# Altium schematic symbol library WR-WTB.SchLib: 259 symbols (part 4 of 5)
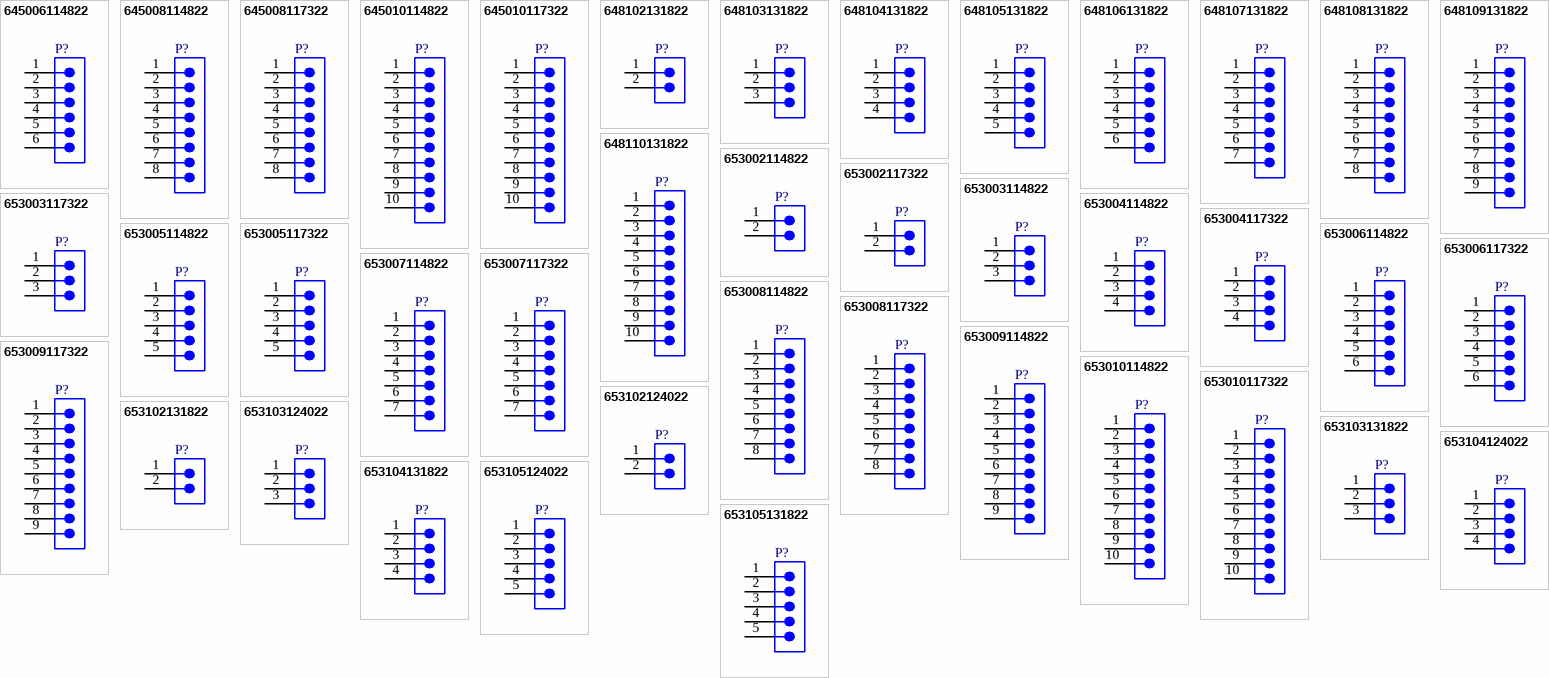
[diagram p9: symbols 645006114822 to 653105131822]

## 653002117322
designator P?  (value not drawn)
WR-WTB THT Male Horizontal Shrouded Header, pitch 1.25mm, 2pins; Manufacturer: Wurth Elektronik; Contact Resistance: 20mohm; Rated Current: 1A; Working Voltage: 125V(AC); Withstanding Voltage: 250V(AC); Manufacturer Part Number: 653002117322; Product Series: WR-WTB; ComponentLink1Description: Website Link; ComponentLink1URL: https://www.we-online.com; ComponentLink2Description: Datasheet Link; ComponentLink2URL: https://www.we-online.com/components/products/datasheet/653002117322; Mount: Through Hole; Operating Temperature Min: -40degC; Operating Temperature Max: 85degC; Packaging: Tube; Length: 4.25mm; Width: 4.7mm; Height: 3.5mm; Gender: Male; Number of Pins: 2; Number of Rows: 1; Orientation: Horizontal; Lead Pitch: 1.25mm
footprint 653002117322
pins: 1, 2

## 653003114822
designator P?  (value not drawn)
WR-WTB THT Male Vertical Shrouded Header, pitch 1.25mm, 3pins; Manufacturer: Wurth Elektronik; Contact Resistance: 20mohm; Rated Current: 1A; Working Voltage: 125V(AC); Withstanding Voltage: 250V(AC); Manufacturer Part Number: 653003114822; Product Series: WR-WTB; ComponentLink1Description: Website Link; ComponentLink1URL: https://www.we-online.com; ComponentLink2Description: Datasheet Link; ComponentLink2URL: https://www.we-online.com/components/products/datasheet/653003114822; Mount: Through Hole; Operating Temperature Min: -40degC; Operating Temperature Max: 85degC; Packaging: Bag; Length: 5.5mm; Width: 3.2mm; Height: 4.2mm; Gender: Male; Number of Pins: 3; Number of Rows: 1; Orientation: Vertical; Lead Pitch: 1.25mm
footprint 653003114822
pins: 1, 2, 3

## 653003117322
designator P?  (value not drawn)
WR-WTB THT Male Horizontal Shrouded Header, pitch 1.25mm, 3pins; Manufacturer: Wurth Elektronik; Contact Resistance: 20mohm; Rated Current: 1A; Working Voltage: 125V(AC); Withstanding Voltage: 250V(AC); Manufacturer Part Number: 653003117322; Product Series: WR-WTB; ComponentLink1Description: Website Link; ComponentLink1URL: https://www.we-online.com; ComponentLink2Description: Datasheet Link; ComponentLink2URL: https://www.we-online.com/components/products/datasheet/653003117322; Mount: Through Hole; Operating Temperature Min: -40degC; Operating Temperature Max: 85degC; Packaging: Tube; Length: 5.5mm; Width: 4.7mm; Height: 3.5mm; Gender: Male; Number of Pins: 3; Number of Rows: 1; Orientation: Horizontal; Lead Pitch: 1.25mm
footprint 653003117322
pins: 1, 2, 3

## 653004114822
designator P?  (value not drawn)
WR-WTB THT Male Vertical Shrouded Header, pitch 1.25mm, 4pins; Manufacturer: Wurth Elektronik; Contact Resistance: 20mohm; Rated Current: 1A; Working Voltage: 125V(AC); Withstanding Voltage: 250V(AC); Manufacturer Part Number: 653004114822; Product Series: WR-WTB; ComponentLink1Description: Website Link; ComponentLink1URL: https://www.we-online.com; ComponentLink2Description: Datasheet Link; ComponentLink2URL: https://www.we-online.com/components/products/datasheet/653004114822; Mount: Through Hole; Operating Temperature Min: -40degC; Operating Temperature Max: 85degC; Packaging: Tube; Length: 6.75mm; Width: 3.2mm; Height: 4.2mm; Gender: Male; Number of Pins: 4; Number of Rows: 1; Orientation: Vertical; Lead Pitch: 1.25mm
footprint 653004114822
pins: 1, 2, 3, 4

## 653004117322
designator P?  (value not drawn)
WR-WTB THT Male Horizontal Shrouded Header, pitch 1.25mm, 4pins; Manufacturer: Wurth Elektronik; Contact Resistance: 20mohm; Rated Current: 1A; Working Voltage: 125V(AC); Withstanding Voltage: 250V(AC); Manufacturer Part Number: 653004117322; Product Series: WR-WTB; ComponentLink1Description: Website Link; ComponentLink1URL: https://www.we-online.com; ComponentLink2Description: Datasheet Link; ComponentLink2URL: https://www.we-online.com/components/products/datasheet/653004117322; Mount: Through Hole; Operating Temperature Min: -40degC; Operating Temperature Max: 85degC; Packaging: Tube; Length: 6.75mm; Width: 4.7mm; Height: 3.5mm; Gender: Male; Number of Pins: 4; Number of Rows: 1; Orientation: Horizontal; Lead Pitch: 1.25mm
footprint 653004117322
pins: 1, 2, 3, 4

## 653005114822
designator P?  (value not drawn)
WR-WTB THT Male Vertical Shrouded Header, pitch 1.25mm, 5pins; Manufacturer: Wurth Elektronik; Contact Resistance: 20mohm; Rated Current: 1A; Working Voltage: 125V(AC); Withstanding Voltage: 250V(AC); Manufacturer Part Number: 653005114822; Product Series: WR-WTB; ComponentLink1Description: Website Link; ComponentLink1URL: https://www.we-online.com; ComponentLink2Description: Datasheet Link; ComponentLink2URL: https://www.we-online.com/components/products/datasheet/653005114822; Mount: Through Hole; Operating Temperature Min: -40degC; Operating Temperature Max: 85degC; Packaging: Tube; Length: 8mm; Width: 3.2mm; Height: 4.2mm; Gender: Male; Number of Pins: 5; Number of Rows: 1; Orientation: Vertical; Lead Pitch: 1.25mm
footprint 653005114822
pins: 1, 2, 3, 4, 5

## 653005117322
designator P?  (value not drawn)
WR-WTB THT Male Horizontal Shrouded Header, pitch 1.25mm, 5pins; Manufacturer: Wurth Elektronik; Contact Resistance: 20mohm; Rated Current: 1A; Working Voltage: 125V(AC); Withstanding Voltage: 250V(AC); Manufacturer Part Number: 653005117322; Product Series: WR-WTB; ComponentLink1Description: Website Link; ComponentLink1URL: https://www.we-online.com; ComponentLink2Description: Datasheet Link; ComponentLink2URL: https://www.we-online.com/components/products/datasheet/653005117322; Mount: Through Hole; Operating Temperature Min: -40degC; Operating Temperature Max: 85degC; Packaging: Tube; Length: 8mm; Width: 4.7mm; Height: 3.5mm; Gender: Male; Number of Pins: 5; Number of Rows: 1; Orientation: Horizontal; Lead Pitch: 1.25mm
footprint 653005117322
pins: 1, 2, 3, 4, 5

## 653006114822
designator P?  (value not drawn)
WR-WTB THT Male Vertical Shrouded Header, pitch 1.25mm, 6pins; Manufacturer: Wurth Elektronik; Contact Resistance: 20mohm; Rated Current: 1A; Working Voltage: 125V(AC); Withstanding Voltage: 250V(AC); Manufacturer Part Number: 653006114822; Product Series: WR-WTB; ComponentLink1Description: Website Link; ComponentLink1URL: https://www.we-online.com; ComponentLink2Description: Datasheet Link; ComponentLink2URL: https://www.we-online.com/components/products/datasheet/653006114822; Mount: Through Hole; Operating Temperature Min: -40degC; Operating Temperature Max: 85degC; Packaging: Tube; Length: 9.25mm; Width: 3.2mm; Height: 4.2mm; Gender: Male; Number of Pins: 6; Number of Rows: 1; Orientation: Vertical; Lead Pitch: 1.25mm
footprint 653006114822
pins: 1, 2, 3, 4, 5, 6

## 653006117322
designator P?  (value not drawn)
WR-WTB THT Male Horizontal Shrouded Header, pitch 1.25mm, 6pins; Manufacturer: Wurth Elektronik; Contact Resistance: 20mohm; Rated Current: 1A; Working Voltage: 125V(AC); Withstanding Voltage: 250V(AC); Manufacturer Part Number: 653006117322; Product Series: WR-WTB; ComponentLink1Description: Website Link; ComponentLink1URL: https://www.we-online.com; ComponentLink2Description: Datasheet Link; ComponentLink2URL: https://www.we-online.com/components/products/datasheet/653006117322; Mount: Through Hole; Operating Temperature Min: -40degC; Operating Temperature Max: 85degC; Packaging: Tube; Length: 9.25mm; Width: 4.7mm; Height: 3.5mm; Gender: Male; Number of Pins: 6; Number of Rows: 1; Orientation: Horizontal; Lead Pitch: 1.25mm
footprint 653006117322
pins: 1, 2, 3, 4, 5, 6

## 653007114822
designator P?  (value not drawn)
WR-WTB THT Male Vertical Shrouded Header, pitch 1.25mm, 7pins; Manufacturer: Wurth Elektronik; Contact Resistance: 20mohm; Rated Current: 1A; Working Voltage: 125V(AC); Withstanding Voltage: 250V(AC); Manufacturer Part Number: 653007114822; Product Series: WR-WTB; ComponentLink1Description: Website Link; ComponentLink1URL: https://www.we-online.com; ComponentLink2Description: Datasheet Link; ComponentLink2URL: https://www.we-online.com/components/products/datasheet/653007114822; Mount: Through Hole; Operating Temperature Min: -40degC; Operating Temperature Max: 85degC; Packaging: Tube; Length: 10.5mm; Width: 3.2mm; Height: 4.2mm; Gender: Male; Number of Pins: 7; Number of Rows: 1; Orientation: Vertical; Lead Pitch: 1.25mm
footprint 653007114822
pins: 1, 2, 3, 4, 5, 6, 7

## 653007117322
designator P?  (value not drawn)
WR-WTB THT Male Horizontal Shrouded Header, pitch 1.25mm, 7pins; Manufacturer: Wurth Elektronik; Contact Resistance: 20mohm; Rated Current: 1A; Working Voltage: 125V(AC); Withstanding Voltage: 250V(AC); Manufacturer Part Number: 653007117322; Product Series: WR-WTB; ComponentLink1Description: Website Link; ComponentLink1URL: https://www.we-online.com; ComponentLink2Description: Datasheet Link; ComponentLink2URL: https://www.we-online.com/components/products/datasheet/653007117322; Mount: Through Hole; Operating Temperature Min: -40degC; Operating Temperature Max: 85degC; Packaging: Tube; Length: 10.5mm; Width: 4.7mm; Height: 3.5mm; Gender: Male; Number of Pins: 7; Number of Rows: 1; Orientation: Horizontal; Lead Pitch: 1.25mm
footprint 653007117322
pins: 1, 2, 3, 4, 5, 6, 7

## 653008114822
designator P?  (value not drawn)
WR-WTB THT Male Vertical Shrouded Header, pitch 1.25mm, 8pins; Manufacturer: Wurth Elektronik; Contact Resistance: 20mohm; Rated Current: 1A; Working Voltage: 125V(AC); Withstanding Voltage: 250V(AC); Manufacturer Part Number: 653008114822; Product Series: WR-WTB; ComponentLink1Description: Website Link; ComponentLink1URL: https://www.we-online.com; ComponentLink2Description: Datasheet Link; ComponentLink2URL: https://www.we-online.com/components/products/datasheet/653008114822; Mount: Through Hole; Operating Temperature Min: -40degC; Operating Temperature Max: 85degC; Packaging: Tube; Length: 11.75mm; Width: 3.2mm; Height: 4.2mm; Gender: Male; Number of Pins: 8; Number of Rows: 1; Orientation: Vertical; Lead Pitch: 1.25mm
footprint 653008114822
pins: 1, 2, 3, 4, 5, 6, 7, 8

## 653008117322
designator P?  (value not drawn)
WR-WTB THT Male Horizontal Shrouded Header, pitch 1.25mm, 8pins; Manufacturer: Wurth Elektronik; Contact Resistance: 20mohm; Rated Current: 1A; Working Voltage: 125V(AC); Withstanding Voltage: 250V(AC); Manufacturer Part Number: 653008117322; Product Series: WR-WTB; ComponentLink1Description: Website Link; ComponentLink1URL: https://www.we-online.com; ComponentLink2Description: Datasheet Link; ComponentLink2URL: https://www.we-online.com/components/products/datasheet/653008117322; Mount: Through Hole; Operating Temperature Min: -40degC; Operating Temperature Max: 85degC; Packaging: Tube; Length: 11.75mm; Width: 4.7mm; Height: 3.5mm; Gender: Male; Number of Pins: 8; Number of Rows: 1; Orientation: Horizontal; Lead Pitch: 1.25mm
footprint 653008117322
pins: 1, 2, 3, 4, 5, 6, 7, 8

## 653009114822
designator P?  (value not drawn)
WR-WTB THT Male Vertical Shrouded Header, pitch 1.25mm, 9pins; Manufacturer: Wurth Elektronik; Contact Resistance: 20mohm; Rated Current: 1A; Working Voltage: 125V(AC); Withstanding Voltage: 250V(AC); Manufacturer Part Number: 653009114822; Product Series: WR-WTB; ComponentLink1Description: Website Link; ComponentLink1URL: https://www.we-online.com; ComponentLink2Description: Datasheet Link; ComponentLink2URL: https://www.we-online.com/components/products/datasheet/653009114822; Mount: Through Hole; Operating Temperature Min: -40degC; Operating Temperature Max: 85degC; Packaging: Tube; Length: 13mm; Width: 3.2mm; Height: 4.2mm; Gender: Male; Number of Pins: 9; Number of Rows: 1; Orientation: Vertical; Lead Pitch: 1.25mm
footprint 653009114822
pins: 1, 2, 3, 4, 5, 6, 7, 8, 9

## 653009117322
designator P?  (value not drawn)
WR-WTB THT Male Horizontal Shrouded Header, pitch 1.25mm, 9pins; Manufacturer: Wurth Elektronik; Contact Resistance: 20mohm; Rated Current: 1A; Working Voltage: 125V(AC); Withstanding Voltage: 250V(AC); Manufacturer Part Number: 653009117322; Product Series: WR-WTB; ComponentLink1Description: Website Link; ComponentLink1URL: https://www.we-online.com; ComponentLink2Description: Datasheet Link; ComponentLink2URL: https://www.we-online.com/components/products/datasheet/653009117322; Mount: Through Hole; Operating Temperature Min: -40degC; Operating Temperature Max: 85degC; Packaging: Tube; Length: 13mm; Width: 4.7mm; Height: 3.5mm; Gender: Male; Number of Pins: 9; Number of Rows: 1; Orientation: Horizontal; Lead Pitch: 1.25mm
footprint 653009117322
pins: 1, 2, 3, 4, 5, 6, 7, 8, 9

## 653010114822
designator P?  (value not drawn)
WR-WTB THT Male Vertical Shrouded Header, pitch 1.25mm, 10pins; Manufacturer: Wurth Elektronik; Contact Resistance: 20mohm; Rated Current: 1A; Working Voltage: 125V(AC); Withstanding Voltage: 250V(AC); Manufacturer Part Number: 653010114822; Product Series: WR-WTB; ComponentLink1Description: Website Link; ComponentLink1URL: https://www.we-online.com; ComponentLink2Description: Datasheet Link; ComponentLink2URL: https://www.we-online.com/components/products/datasheet/653010114822; Mount: Through Hole; Operating Temperature Min: -40degC; Operating Temperature Max: 85degC; Packaging: Tube; Length: 14.25mm; Width: 3.2mm; Height: 4.2mm; Gender: Male; Number of Pins: 10; Number of Rows: 1; Orientation: Vertical; Lead Pitch: 1.25mm
footprint 653010114822
pins: 1, 2, 3, 4, 5, 6, 7, 8, 9, 10

## 653010117322
designator P?  (value not drawn)
WR-WTB THT Male Horizontal Shrouded Header, pitch 1.25mm, 10pins; Manufacturer: Wurth Elektronik; Contact Resistance: 20mohm; Rated Current: 1A; Working Voltage: 125V(AC); Withstanding Voltage: 250V(AC); Manufacturer Part Number: 653010117322; Product Series: WR-WTB; ComponentLink1Description: Website Link; ComponentLink1URL: https://www.we-online.com; ComponentLink2Description: Datasheet Link; ComponentLink2URL: https://www.we-online.com/components/products/datasheet/653010117322; Mount: Through Hole; Operating Temperature Min: -40degC; Operating Temperature Max: 85degC; Packaging: Tube; Length: 14.25mm; Width: 4.7mm; Height: 3.5mm; Gender: Male; Number of Pins: 10; Number of Rows: 1; Orientation: Horizontal; Lead Pitch: 1.25mm
footprint 653010117322
pins: 1, 2, 3, 4, 5, 6, 7, 8, 9, 10

## 653102124022
designator P?  (value not drawn)
WR-WTB SMT Male Vertical Shrouded Header, pitch 1.25mm, 2pins; Manufacturer: Wurth Elektronik; Contact Resistance: 20mohm; Rated Current: 1A; Working Voltage: 125V(AC); Withstanding Voltage: 250V(AC); Manufacturer Part Number: 653102124022; Product Series: WR-WTB; ComponentLink1Description: Website Link; ComponentLink1URL: https://www.we-online.com; ComponentLink2Description: Datasheet Link; ComponentLink2URL: https://www.we-online.com/components/products/datasheet/653102124022; Mount: Surface Mount; Operating Temperature Min: -40degC; Operating Temperature Max: 85degC; Packaging: Tape and Reel; Length: 7.25mm; Width: 4.2mm; Height: 4.75mm; Gender: Male; Number of Pins: 2; Number of Rows: 1; Orientation: Vertical; Lead Pitch: 1.25mm
footprint 653102124022
pins: 1, 2

## 653102131822
designator P?  (value not drawn)
WR-WTB SMT Male Horizontal Shrouded Header, pitch 1.25mm, 2pins; Manufacturer: Wurth Elektronik; Contact Resistance: 20mohm; Rated Current: 1A; Working Voltage: 125V(AC); Withstanding Voltage: 250V(AC); Manufacturer Part Number: 653102131822; Product Series: WR-WTB; ComponentLink1Description: Website Link; ComponentLink1URL: https://www.we-online.com; ComponentLink2Description: Datasheet Link; ComponentLink2URL: https://www.we-online.com/components/products/datasheet/653102131822; Mount: Surface Mount; Operating Temperature Min: -40degC; Operating Temperature Max: 85degC; Packaging: Tape and Reel; Length: 7.25mm; Width: 5.4mm; Height: 3.4mm; Gender: Male; Number of Pins: 2; Number of Rows: 1; Orientation: Horizontal; Lead Pitch: 1.25mm
footprint 653102131822
pins: 1, 2

## 653103124022
designator P?  (value not drawn)
WR-WTB SMT Male Vertical Shrouded Header, pitch 1.25mm, 3pins; Manufacturer: Wurth Elektronik; Contact Resistance: 20mohm; Rated Current: 1A; Working Voltage: 125V(AC); Withstanding Voltage: 250V(AC); Manufacturer Part Number: 653103124022; Product Series: WR-WTB; ComponentLink1Description: Website Link; ComponentLink1URL: https://www.we-online.com; ComponentLink2Description: Datasheet Link; ComponentLink2URL: https://www.we-online.com/components/products/datasheet/653103124022; Mount: Surface Mount; Operating Temperature Min: -40degC; Operating Temperature Max: 85degC; Packaging: Tape and Reel; Length: 8.5mm; Width: 4.2mm; Height: 4.75mm; Gender: Male; Number of Pins: 3; Number of Rows: 1; Orientation: Vertical; Lead Pitch: 1.25mm
footprint 653103124022
pins: 1, 2, 3

## 653103131822
designator P?  (value not drawn)
WR-WTB SMT Male Horizontal Shrouded Header, pitch 1.25mm, 3pins; Manufacturer: Wurth Elektronik; Contact Resistance: 20mohm; Rated Current: 1A; Working Voltage: 125V(AC); Withstanding Voltage: 250V(AC); Manufacturer Part Number: 653103131822; Product Series: WR-WTB; ComponentLink1Description: Website Link; ComponentLink1URL: https://www.we-online.com; ComponentLink2Description: Datasheet Link; ComponentLink2URL: https://www.we-online.com/components/products/datasheet/653103131822; Mount: Surface Mount; Operating Temperature Min: -40degC; Operating Temperature Max: 85degC; Packaging: Tape and Reel; Length: 8.5mm; Width: 5.4mm; Height: 3.4mm; Gender: Male; Number of Pins: 3; Number of Rows: 1; Orientation: Horizontal; Lead Pitch: 1.25mm
footprint 653103131822
pins: 1, 2, 3

## 653104124022
designator P?  (value not drawn)
WR-WTB SMT Male Vertical Shrouded Header, pitch 1.25mm, 4pins; Manufacturer: Wurth Elektronik; Contact Resistance: 20mohm; Rated Current: 1A; Working Voltage: 125V(AC); Withstanding Voltage: 250V(AC); Manufacturer Part Number: 653104124022; Product Series: WR-WTB; ComponentLink1Description: Website Link; ComponentLink1URL: https://www.we-online.com; ComponentLink2Description: Datasheet Link; ComponentLink2URL: https://www.we-online.com/components/products/datasheet/653104124022; Mount: Surface Mount; Operating Temperature Min: -40degC; Operating Temperature Max: 85degC; Packaging: Tape and Reel; Length: 9.75mm; Width: 4.2mm; Height: 4.75mm; Gender: Male; Number of Pins: 4; Number of Rows: 1; Orientation: Vertical; Lead Pitch: 1.25mm
footprint 653104124022
pins: 1, 2, 3, 4

## 653104131822
designator P?  (value not drawn)
WR-WTB SMT Male Horizontal Shrouded Header, pitch 1.25mm, 4pins; Manufacturer: Wurth Elektronik; Contact Resistance: 20mohm; Rated Current: 1A; Working Voltage: 125V(AC); Withstanding Voltage: 250V(AC); Manufacturer Part Number: 653104131822; Product Series: WR-WTB; ComponentLink1Description: Website Link; ComponentLink1URL: https://www.we-online.com; ComponentLink2Description: Datasheet Link; ComponentLink2URL: https://www.we-online.com/components/products/datasheet/653104131822; Mount: Surface Mount; Operating Temperature Min: -40degC; Operating Temperature Max: 85degC; Packaging: Tape and Reel; Length: 9.75mm; Width: 5.4mm; Height: 3.4mm; Gender: Male; Number of Pins: 4; Number of Rows: 1; Orientation: Horizontal; Lead Pitch: 1.25mm
footprint 653104131822
pins: 1, 2, 3, 4

## 653105124022
designator P?  (value not drawn)
WR-WTB SMT Male Vertical Shrouded Header, pitch 1.25mm, 5pins; Manufacturer: Wurth Elektronik; Contact Resistance: 20mohm; Rated Current: 1A; Working Voltage: 125V(AC); Withstanding Voltage: 250V(AC); Manufacturer Part Number: 653105124022; Product Series: WR-WTB; ComponentLink1Description: Website Link; ComponentLink1URL: https://www.we-online.com; ComponentLink2Description: Datasheet Link; ComponentLink2URL: https://www.we-online.com/components/products/datasheet/653105124022; Mount: Surface Mount; Operating Temperature Min: -40degC; Operating Temperature Max: 85degC; Packaging: Tape and Reel; Length: 11mm; Width: 4.2mm; Height: 4.75mm; Gender: Male; Number of Pins: 5; Number of Rows: 1; Orientation: Vertical; Lead Pitch: 1.25mm
footprint 653105124022
pins: 1, 2, 3, 4, 5

## 653105131822
designator P?  (value not drawn)
WR-WTB SMT Male Horizontal Shrouded Header, pitch 1.25mm, 5pins; Manufacturer: Wurth Elektronik; Contact Resistance: 20mohm; Rated Current: 1A; Working Voltage: 125V(AC); Withstanding Voltage: 250V(AC); Manufacturer Part Number: 653105131822; Product Series: WR-WTB; ComponentLink1Description: Website Link; ComponentLink1URL: https://www.we-online.com; ComponentLink2Description: Datasheet Link; ComponentLink2URL: https://www.we-online.com/components/products/datasheet/653105131822; Mount: Surface Mount; Operating Temperature Min: -40degC; Operating Temperature Max: 85degC; Packaging: Tape and Reel; Length: 11mm; Width: 5.4mm; Height: 3.4mm; Gender: Male; Number of Pins: 5; Number of Rows: 1; Orientation: Horizontal; Lead Pitch: 1.25mm
footprint 653105131822
pins: 1, 2, 3, 4, 5

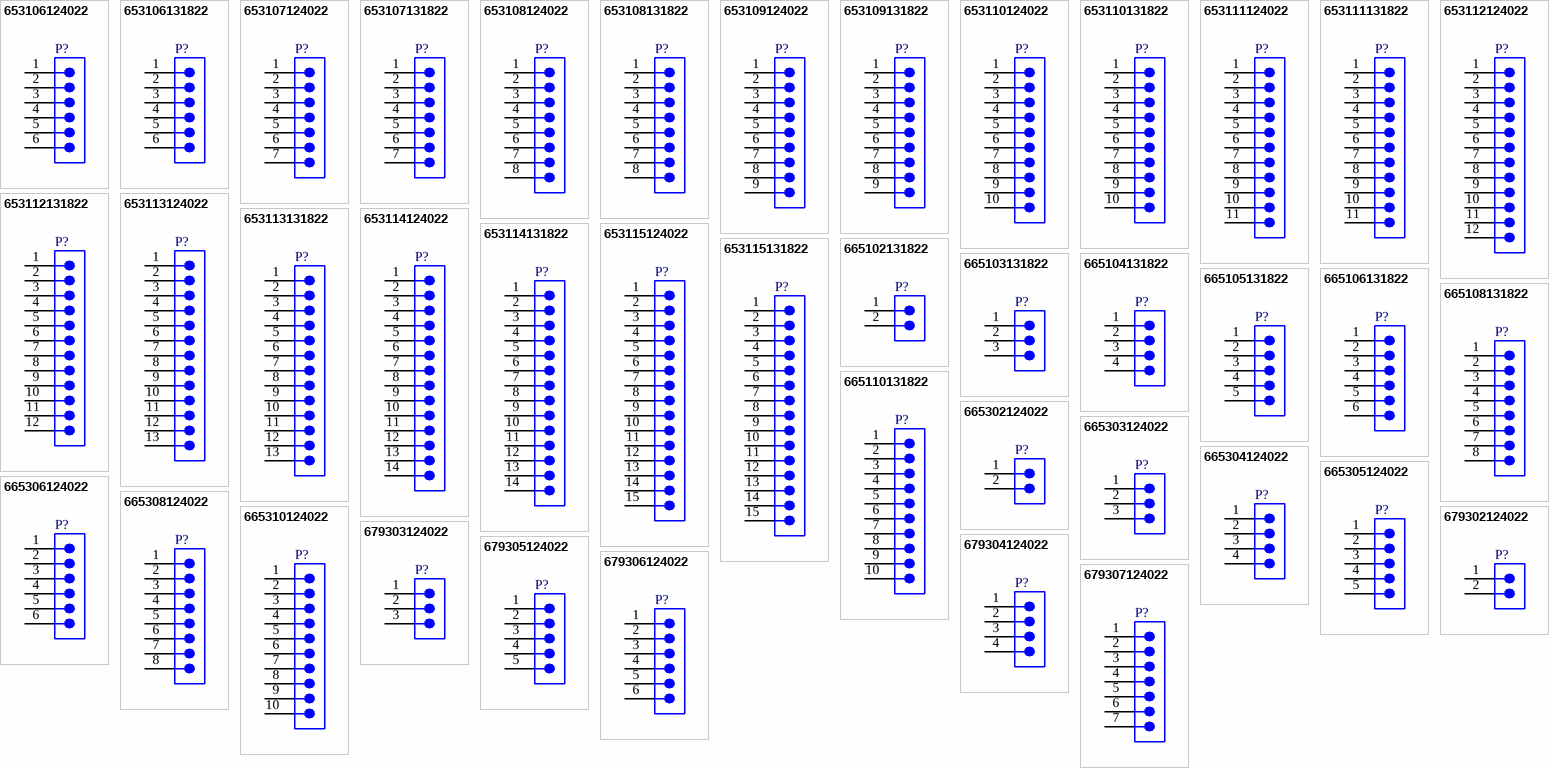
[diagram p5: symbols 653106124022 to 679307124022]

## 653106124022
designator P?  (value not drawn)
WR-WTB SMT Male Vertical Shrouded Header, pitch 1.25mm, 6pins; Manufacturer: Wurth Elektronik; Contact Resistance: 20mohm; Rated Current: 1A; Working Voltage: 125V(AC); Withstanding Voltage: 250V(AC); Manufacturer Part Number: 653106124022; Product Series: WR-WTB; ComponentLink1Description: Website Link; ComponentLink1URL: https://www.we-online.com; ComponentLink2Description: Datasheet Link; ComponentLink2URL: https://www.we-online.com/components/products/datasheet/653106124022; Mount: Surface Mount; Operating Temperature Min: -40degC; Operating Temperature Max: 85degC; Packaging: Tape and Reel; Length: 12.25mm; Width: 4.2mm; Height: 4.75mm; Gender: Male; Number of Pins: 6; Number of Rows: 1; Orientation: Vertical; Lead Pitch: 1.25mm
footprint 653106124022
pins: 1, 2, 3, 4, 5, 6

## 653106131822
designator P?  (value not drawn)
WR-WTB SMT Male Horizontal Shrouded Header, pitch 1.25mm, 6pins; Manufacturer: Wurth Elektronik; Contact Resistance: 20mohm; Rated Current: 1A; Working Voltage: 125V(AC); Withstanding Voltage: 250V(AC); Manufacturer Part Number: 653106131822; Product Series: WR-WTB; ComponentLink1Description: Website Link; ComponentLink1URL: https://www.we-online.com; ComponentLink2Description: Datasheet Link; ComponentLink2URL: https://www.we-online.com/components/products/datasheet/653106131822; Mount: Surface Mount; Operating Temperature Min: -40degC; Operating Temperature Max: 85degC; Packaging: Tape and Reel; Length: 12.25mm; Width: 5.4mm; Height: 3.4mm; Gender: Male; Number of Pins: 6; Number of Rows: 1; Orientation: Horizontal; Lead Pitch: 1.25mm
footprint 653106131822
pins: 1, 2, 3, 4, 5, 6

## 653107124022
designator P?  (value not drawn)
WR-WTB SMT Male Vertical Shrouded Header, pitch 1.25mm, 7pins; Manufacturer: Wurth Elektronik; Contact Resistance: 20mohm; Rated Current: 1A; Working Voltage: 125V(AC); Withstanding Voltage: 250V(AC); Manufacturer Part Number: 653107124022; Product Series: WR-WTB; ComponentLink1Description: Website Link; ComponentLink1URL: https://www.we-online.com; ComponentLink2Description: Datasheet Link; ComponentLink2URL: https://www.we-online.com/components/products/datasheet/653107124022; Mount: Surface Mount; Operating Temperature Min: -40degC; Operating Temperature Max: 85degC; Packaging: Tape and Reel; Length: 13.5mm; Width: 4.2mm; Height: 4.75mm; Gender: Male; Number of Pins: 7; Number of Rows: 1; Orientation: Vertical; Lead Pitch: 1.25mm
footprint 653107124022
pins: 1, 2, 3, 4, 5, 6, 7

## 653107131822
designator P?  (value not drawn)
WR-WTB SMT Male Horizontal Shrouded Header, pitch 1.25mm, 7pins; Manufacturer: Wurth Elektronik; Contact Resistance: 20mohm; Rated Current: 1A; Working Voltage: 125V(AC); Withstanding Voltage: 250V(AC); Manufacturer Part Number: 653107131822; Product Series: WR-WTB; ComponentLink1Description: Website Link; ComponentLink1URL: https://www.we-online.com; ComponentLink2Description: Datasheet Link; ComponentLink2URL: https://www.we-online.com/components/products/datasheet/653107131822; Mount: Surface Mount; Operating Temperature Min: -40degC; Operating Temperature Max: 85degC; Packaging: Tape and Reel; Length: 13.5mm; Width: 5.4mm; Height: 3.4mm; Gender: Male; Number of Pins: 7; Number of Rows: 1; Orientation: Horizontal; Lead Pitch: 1.25mm
footprint 653107131822
pins: 1, 2, 3, 4, 5, 6, 7

## 653108124022
designator P?  (value not drawn)
WR-WTB SMT Male Vertical Shrouded Header, pitch 1.25mm, 8pins; Manufacturer: Wurth Elektronik; Contact Resistance: 20mohm; Rated Current: 1A; Working Voltage: 125V(AC); Withstanding Voltage: 250V(AC); Manufacturer Part Number: 653108124022; Product Series: WR-WTB; ComponentLink1Description: Website Link; ComponentLink1URL: https://www.we-online.com; ComponentLink2Description: Datasheet Link; ComponentLink2URL: https://www.we-online.com/components/products/datasheet/653108124022; Mount: Surface Mount; Operating Temperature Min: -40degC; Operating Temperature Max: 85degC; Packaging: Tape and Reel; Length: 14.75mm; Width: 4.2mm; Height: 4.75mm; Gender: Male; Number of Pins: 8; Number of Rows: 1; Orientation: Vertical; Lead Pitch: 1.25mm
footprint 653108124022
pins: 1, 2, 3, 4, 5, 6, 7, 8

## 653108131822
designator P?  (value not drawn)
WR-WTB SMT Male Horizontal Shrouded Header, pitch 1.25mm, 8pins; Manufacturer: Wurth Elektronik; Contact Resistance: 20mohm; Rated Current: 1A; Working Voltage: 125V(AC); Withstanding Voltage: 250V(AC); Manufacturer Part Number: 653108131822; Product Series: WR-WTB; ComponentLink1Description: Website Link; ComponentLink1URL: https://www.we-online.com; ComponentLink2Description: Datasheet Link; ComponentLink2URL: https://www.we-online.com/components/products/datasheet/653108131822; Mount: Surface Mount; Operating Temperature Min: -40degC; Operating Temperature Max: 85degC; Packaging: Tape and Reel; Length: 14.75mm; Width: 5.4mm; Height: 3.4mm; Gender: Male; Number of Pins: 8; Number of Rows: 1; Orientation: Horizontal; Lead Pitch: 1.25mm
footprint 653108131822
pins: 1, 2, 3, 4, 5, 6, 7, 8

## 653109124022
designator P?  (value not drawn)
WR-WTB SMT Male Vertical Shrouded Header, pitch 1.25mm, 9pins; Manufacturer: Wurth Elektronik; Contact Resistance: 20mohm; Rated Current: 1A; Working Voltage: 125V(AC); Withstanding Voltage: 250V(AC); Manufacturer Part Number: 653109124022; Product Series: WR-WTB; ComponentLink1Description: Website Link; ComponentLink1URL: https://www.we-online.com; ComponentLink2Description: Datasheet Link; ComponentLink2URL: https://www.we-online.com/components/products/datasheet/653109124022; Mount: Surface Mount; Operating Temperature Min: -40degC; Operating Temperature Max: 85degC; Packaging: Tape and Reel; Length: 16mm; Width: 4.2mm; Height: 4.75mm; Gender: Male; Number of Pins: 9; Number of Rows: 1; Orientation: Vertical; Lead Pitch: 1.25mm
footprint 653109124022
pins: 1, 2, 3, 4, 5, 6, 7, 8, 9

## 653109131822
designator P?  (value not drawn)
WR-WTB SMT Male Horizontal Shrouded Header, pitch 1.25mm, 9pins; Manufacturer: Wurth Elektronik; Contact Resistance: 20mohm; Rated Current: 1A; Working Voltage: 125V(AC); Withstanding Voltage: 250V(AC); Manufacturer Part Number: 653109131822; Product Series: WR-WTB; ComponentLink1Description: Website Link; ComponentLink1URL: https://www.we-online.com; ComponentLink2Description: Datasheet Link; ComponentLink2URL: https://www.we-online.com/components/products/datasheet/653109131822; Mount: Surface Mount; Operating Temperature Min: -40degC; Operating Temperature Max: 85degC; Packaging: Tape and Reel; Length: 16mm; Width: 5.4mm; Height: 3.4mm; Gender: Male; Number of Pins: 9; Number of Rows: 1; Orientation: Horizontal; Lead Pitch: 1.25mm
footprint 653109131822
pins: 1, 2, 3, 4, 5, 6, 7, 8, 9

## 653110124022
designator P?  (value not drawn)
WR-WTB SMT Male Vertical Shrouded Header, pitch 1.25mm, 10pins; Manufacturer: Wurth Elektronik; Contact Resistance: 20mohm; Rated Current: 1A; Working Voltage: 125V(AC); Withstanding Voltage: 250V(AC); Manufacturer Part Number: 653110124022; Product Series: WR-WTB; ComponentLink1Description: Website Link; ComponentLink1URL: https://www.we-online.com; ComponentLink2Description: Datasheet Link; ComponentLink2URL: https://www.we-online.com/components/products/datasheet/653110124022; Mount: Surface Mount; Operating Temperature Min: -40degC; Operating Temperature Max: 85degC; Packaging: Tape and Reel; Length: 17.25mm; Width: 4.2mm; Height: 4.75mm; Gender: Male; Number of Pins: 10; Number of Rows: 1; Orientation: Vertical; Lead Pitch: 1.25mm
footprint 653110124022
pins: 1, 2, 3, 4, 5, 6, 7, 8, 9, 10

## 653110131822
designator P?  (value not drawn)
WR-WTB SMT Male Horizontal Shrouded Header, pitch 1.25mm, 10pins; Manufacturer: Wurth Elektronik; Contact Resistance: 20mohm; Rated Current: 1A; Working Voltage: 125V(AC); Withstanding Voltage: 250V(AC); Manufacturer Part Number: 653110131822; Product Series: WR-WTB; ComponentLink1Description: Website Link; ComponentLink1URL: https://www.we-online.com; ComponentLink2Description: Datasheet Link; ComponentLink2URL: https://www.we-online.com/components/products/datasheet/653110131822; Mount: Surface Mount; Operating Temperature Min: -40degC; Operating Temperature Max: 85degC; Packaging: Tape and Reel; Length: 17.25mm; Width: 5.4mm; Height: 3.4mm; Gender: Male; Number of Pins: 10; Number of Rows: 1; Orientation: Horizontal; Lead Pitch: 1.25mm
footprint 653110131822
pins: 1, 2, 3, 4, 5, 6, 7, 8, 9, 10

## 653111124022
designator P?  (value not drawn)
WR-WTB SMT Male Vertical Shrouded Header, pitch 1.25mm, 11pins; Manufacturer: Wurth Elektronik; Contact Resistance: 20mohm; Rated Current: 1A; Working Voltage: 125V(AC); Withstanding Voltage: 250V(AC); Manufacturer Part Number: 653111124022; Product Series: WR-WTB; ComponentLink1Description: Website Link; ComponentLink1URL: https://www.we-online.com; ComponentLink2Description: Datasheet Link; ComponentLink2URL: https://www.we-online.com/components/products/datasheet/653111124022; Mount: Surface Mount; Operating Temperature Min: -40degC; Operating Temperature Max: 85degC; Packaging: Tape and Reel; Length: 18.5mm; Width: 4.2mm; Height: 4.75mm; Gender: Male; Number of Pins: 11; Number of Rows: 1; Orientation: Vertical; Lead Pitch: 1.25mm
footprint 653111124022
pins: 1, 2, 3, 4, 5, 6, 7, 8, 9, 10, 11

## 653111131822
designator P?  (value not drawn)
WR-WTB SMT Male Horizontal Shrouded Header, pitch 1.25mm, 11pins; Manufacturer: Wurth Elektronik; Contact Resistance: 20mohm; Rated Current: 1A; Working Voltage: 125V(AC); Withstanding Voltage: 250V(AC); Manufacturer Part Number: 653111131822; Product Series: WR-WTB; ComponentLink1Description: Website Link; ComponentLink1URL: https://www.we-online.com; ComponentLink2Description: Datasheet Link; ComponentLink2URL: https://www.we-online.com/components/products/datasheet/653111131822; Mount: Surface Mount; Operating Temperature Min: -40degC; Operating Temperature Max: 85degC; Packaging: Tape and Reel; Length: 18.5mm; Width: 5.4mm; Height: 3.4mm; Gender: Male; Number of Pins: 11; Number of Rows: 1; Orientation: Horizontal; Lead Pitch: 1.25mm
footprint 653111131822
pins: 1, 2, 3, 4, 5, 6, 7, 8, 9, 10, 11

## 653112124022
designator P?  (value not drawn)
WR-WTB SMT Male Vertical Shrouded Header, pitch 1.25mm, 12pins; Manufacturer: Wurth Elektronik; Contact Resistance: 20mohm; Rated Current: 1A; Working Voltage: 125V(AC); Withstanding Voltage: 250V(AC); Manufacturer Part Number: 653112124022; Product Series: WR-WTB; ComponentLink1Description: Website Link; ComponentLink1URL: https://www.we-online.com; ComponentLink2Description: Datasheet Link; ComponentLink2URL: https://www.we-online.com/components/products/datasheet/653112124022; Mount: Surface Mount; Operating Temperature Min: -40degC; Operating Temperature Max: 85degC; Packaging: Tape and Reel; Length: 19.75mm; Width: 4.2mm; Height: 4.75mm; Gender: Male; Number of Pins: 12; Number of Rows: 1; Orientation: Vertical; Lead Pitch: 1.25mm
footprint 653112124022
pins: 1, 2, 3, 4, 5, 6, 7, 8, 9, 10, 11, 12

## 653112131822
designator P?  (value not drawn)
WR-WTB SMT Male Horizontal Shrouded Header, pitch 1.25mm, 12pins; Manufacturer: Wurth Elektronik; Contact Resistance: 20mohm; Rated Current: 1A; Working Voltage: 125V(AC); Withstanding Voltage: 250V(AC); Manufacturer Part Number: 653112131822; Product Series: WR-WTB; ComponentLink1Description: Website Link; ComponentLink1URL: https://www.we-online.com; ComponentLink2Description: Datasheet Link; ComponentLink2URL: https://www.we-online.com/components/products/datasheet/653112131822; Mount: Surface Mount; Operating Temperature Min: -40degC; Operating Temperature Max: 85degC; Packaging: Tape and Reel; Length: 19.75mm; Width: 5.4mm; Height: 3.4mm; Gender: Male; Number of Pins: 12; Number of Rows: 1; Orientation: Horizontal; Lead Pitch: 1.25mm
footprint 653112131822
pins: 1, 2, 3, 4, 5, 6, 7, 8, 9, 10, 11, 12

## 653113124022
designator P?  (value not drawn)
WR-WTB SMT Male Vertical Shrouded Header, pitch 1.25mm, 13pins; Manufacturer: Wurth Elektronik; Contact Resistance: 20mohm; Rated Current: 1A; Working Voltage: 125V(AC); Withstanding Voltage: 250V(AC); Manufacturer Part Number: 653113124022; Product Series: WR-WTB; ComponentLink1Description: Website Link; ComponentLink1URL: https://www.we-online.com; ComponentLink2Description: Datasheet Link; ComponentLink2URL: https://www.we-online.com/components/products/datasheet/653113124022; Mount: Surface Mount; Operating Temperature Min: -40degC; Operating Temperature Max: 85degC; Packaging: Tape and Reel; Length: 21mm; Width: 4.2mm; Height: 4.75mm; Gender: Male; Number of Pins: 13; Number of Rows: 1; Orientation: Vertical; Lead Pitch: 1.25mm
footprint 653113124022
pins: 1, 2, 3, 4, 5, 6, 7, 8, 9, 10, 11, 12, 13

## 653113131822
designator P?  (value not drawn)
WR-WTB SMT Male Horizontal Shrouded Header, pitch 1.25mm, 13pins; Manufacturer: Wurth Elektronik; Contact Resistance: 20mohm; Rated Current: 1A; Working Voltage: 125V(AC); Withstanding Voltage: 250V(AC); Manufacturer Part Number: 653113131822; Product Series: WR-WTB; ComponentLink1Description: Website Link; ComponentLink1URL: https://www.we-online.com; ComponentLink2Description: Datasheet Link; ComponentLink2URL: https://www.we-online.com/components/products/datasheet/653113131822; Mount: Surface Mount; Operating Temperature Min: -40degC; Operating Temperature Max: 85degC; Packaging: Tape and Reel; Length: 21mm; Width: 5.4mm; Height: 3.4mm; Gender: Male; Number of Pins: 13; Number of Rows: 1; Orientation: Horizontal; Lead Pitch: 1.25mm
footprint 653113131822
pins: 1, 2, 3, 4, 5, 6, 7, 8, 9, 10, 11, 12, 13

## 653114124022
designator P?  (value not drawn)
WR-WTB SMT Male Vertical Shrouded Header, pitch 1.25mm, 14pins; Manufacturer: Wurth Elektronik; Contact Resistance: 20mohm; Rated Current: 1A; Working Voltage: 125V(AC); Withstanding Voltage: 250V(AC); Manufacturer Part Number: 653114124022; Product Series: WR-WTB; ComponentLink1Description: Website Link; ComponentLink1URL: https://www.we-online.com; ComponentLink2Description: Datasheet Link; ComponentLink2URL: https://www.we-online.com/components/products/datasheet/653114124022; Mount: Surface Mount; Operating Temperature Min: -40degC; Operating Temperature Max: 85degC; Packaging: Tape and Reel; Length: 22.25mm; Width: 4.2mm; Height: 4.75mm; Gender: Male; Number of Pins: 14; Number of Rows: 1; Orientation: Vertical; Lead Pitch: 1.25mm
footprint 653114124022
pins: 1, 2, 3, 4, 5, 6, 7, 8, 9, 10, 11, 12, 13, 14

## 653114131822
designator P?  (value not drawn)
WR-WTB SMT Male Horizontal Shrouded Header, pitch 1.25mm, 14pins; Manufacturer: Wurth Elektronik; Contact Resistance: 20mohm; Rated Current: 1A; Working Voltage: 125V(AC); Withstanding Voltage: 250V(AC); Manufacturer Part Number: 653114131822; Product Series: WR-WTB; ComponentLink1Description: Website Link; ComponentLink1URL: https://www.we-online.com; ComponentLink2Description: Datasheet Link; ComponentLink2URL: https://www.we-online.com/components/products/datasheet/653114131822; Mount: Surface Mount; Operating Temperature Min: -40degC; Operating Temperature Max: 85degC; Packaging: Tape and Reel; Length: 22.25mm; Width: 5.4mm; Height: 3.4mm; Gender: Male; Number of Pins: 14; Number of Rows: 1; Orientation: Horizontal; Lead Pitch: 1.25mm
footprint 653114131822
pins: 1, 2, 3, 4, 5, 6, 7, 8, 9, 10, 11, 12, 13, 14

## 653115124022
designator P?  (value not drawn)
WR-WTB SMT Male Vertical Shrouded Header, pitch 1.25mm, 15pins; Manufacturer: Wurth Elektronik; Contact Resistance: 20mohm; Rated Current: 1A; Working Voltage: 125V(AC); Withstanding Voltage: 250V(AC); Manufacturer Part Number: 653115124022; Product Series: WR-WTB; ComponentLink1Description: Website Link; ComponentLink1URL: https://www.we-online.com; ComponentLink2Description: Datasheet Link; ComponentLink2URL: https://www.we-online.com/components/products/datasheet/653115124022; Mount: Surface Mount; Operating Temperature Min: -40degC; Operating Temperature Max: 85degC; Packaging: Tape and Reel; Length: 23.5mm; Width: 4.2mm; Height: 4.75mm; Gender: Male; Number of Pins: 15; Number of Rows: 1; Orientation: Vertical; Lead Pitch: 1.25mm
footprint 653115124022
pins: 1, 2, 3, 4, 5, 6, 7, 8, 9, 10, 11, 12, 13, 14, 15

## 653115131822
designator P?  (value not drawn)
WR-WTB SMT Male Horizontal Shrouded Header, pitch 1.25mm, 15pins; Manufacturer: Wurth Elektronik; Contact Resistance: 20mohm; Rated Current: 1A; Working Voltage: 125V(AC); Withstanding Voltage: 250V(AC); Manufacturer Part Number: 653115131822; Product Series: WR-WTB; ComponentLink1Description: Website Link; ComponentLink1URL: https://www.we-online.com; ComponentLink2Description: Datasheet Link; ComponentLink2URL: https://www.we-online.com/components/products/datasheet/653115131822; Mount: Surface Mount; Operating Temperature Min: -40degC; Operating Temperature Max: 85degC; Packaging: Tape and Reel; Length: 23.5mm; Width: 5.4mm; Height: 3.4mm; Gender: Male; Number of Pins: 15; Number of Rows: 1; Orientation: Horizontal; Lead Pitch: 1.25mm
footprint 653115131822
pins: 1, 2, 3, 4, 5, 6, 7, 8, 9, 10, 11, 12, 13, 14, 15

## 665102131822
designator P?  (value not drawn)
WR-WTB SMT Male Horizontal Shrouded Header, pitch 1mm, 2pins; Manufacturer: Wurth Elektronik; Contact Resistance: 20mohm; Rated Current: 1A; Working Voltage: 50V(AC); Withstanding Voltage: 500V(AC); Manufacturer Part Number: 665102131822; Product Series: WR-WTB; ComponentLink1Description: Website Link; ComponentLink1URL: https://www.we-online.com; ComponentLink2Description: Datasheet Link; ComponentLink2URL: https://www.we-online.com/components/products/datasheet/665102131822; Mount: Surface Mount; Operating Temperature Min: -25degC; Operating Temperature Max: 85degC; Packaging: Tape and Reel; Length: 4mm; Width: 4.95mm; Height: 2.9mm; Gender: Male; Number of Pins: 2; Number of Rows: 1; Orientation: Horizontal; Lead Pitch: 1mm
footprint 665102131822
pins: 1, 2

## 665103131822
designator P?  (value not drawn)
WR-WTB SMT Male Horizontal Shrouded Header, pitch 1mm, 3pins; Manufacturer: Wurth Elektronik; Contact Resistance: 20mohm; Rated Current: 1A; Working Voltage: 50V(AC); Withstanding Voltage: 500V(AC); Manufacturer Part Number: 665103131822; Product Series: WR-WTB; ComponentLink1Description: Website Link; ComponentLink1URL: https://www.we-online.com; ComponentLink2Description: Datasheet Link; ComponentLink2URL: https://www.we-online.com/components/products/datasheet/665103131822; Mount: Surface Mount; Operating Temperature Min: -25degC; Operating Temperature Max: 85degC; Packaging: Tape and Reel; Length: 5mm; Width: 4.95mm; Height: 2.9mm; Gender: Male; Number of Pins: 3; Number of Rows: 1; Orientation: Horizontal; Lead Pitch: 1mm
footprint 665103131822
pins: 1, 2, 3

## 665104131822
designator P?  (value not drawn)
WR-WTB SMT Male Horizontal Shrouded Header, pitch 1mm, 4pins; Manufacturer: Wurth Elektronik; Contact Resistance: 20mohm; Rated Current: 1A; Working Voltage: 50V(AC); Withstanding Voltage: 500V(AC); Manufacturer Part Number: 665104131822; Product Series: WR-WTB; ComponentLink1Description: Website Link; ComponentLink1URL: https://www.we-online.com; ComponentLink2Description: Datasheet Link; ComponentLink2URL: https://www.we-online.com/components/products/datasheet/665104131822; Mount: Surface Mount; Operating Temperature Min: -25degC; Operating Temperature Max: 85degC; Packaging: Tape and Reel; Length: 6mm; Width: 4.95mm; Height: 2.9mm; Gender: Male; Number of Pins: 4; Number of Rows: 1; Orientation: Horizontal; Lead Pitch: 1mm
footprint 665104131822
pins: 1, 2, 3, 4

## 665105131822
designator P?  (value not drawn)
WR-WTB SMT Male Horizontal Shrouded Header, pitch 1mm, 5pins; Manufacturer: Wurth Elektronik; Contact Resistance: 20mohm; Rated Current: 1A; Working Voltage: 50V(AC); Withstanding Voltage: 500V(AC); Manufacturer Part Number: 665105131822; Product Series: WR-WTB; ComponentLink1Description: Website Link; ComponentLink1URL: https://www.we-online.com; ComponentLink2Description: Datasheet Link; ComponentLink2URL: https://www.we-online.com/components/products/datasheet/665105131822; Mount: Surface Mount; Operating Temperature Min: -25degC; Operating Temperature Max: 85degC; Packaging: Tape and Reel; Length: 7mm; Width: 4.95mm; Height: 2.9mm; Gender: Male; Number of Pins: 5; Number of Rows: 1; Orientation: Horizontal; Lead Pitch: 1mm
footprint 665105131822
pins: 1, 2, 3, 4, 5

## 665106131822
designator P?  (value not drawn)
WR-WTB SMT Male Horizontal Shrouded Header, pitch 1mm, 6pins; Manufacturer: Wurth Elektronik; Contact Resistance: 20mohm; Rated Current: 1A; Working Voltage: 50V(AC); Withstanding Voltage: 500V(AC); Manufacturer Part Number: 665106131822; Product Series: WR-WTB; ComponentLink1Description: Website Link; ComponentLink1URL: https://www.we-online.com; ComponentLink2Description: Datasheet Link; ComponentLink2URL: https://www.we-online.com/components/products/datasheet/665106131822; Mount: Surface Mount; Operating Temperature Min: -25degC; Operating Temperature Max: 85degC; Packaging: Tape and Reel; Length: 8mm; Width: 4.95mm; Height: 2.9mm; Gender: Male; Number of Pins: 6; Number of Rows: 1; Orientation: Horizontal; Lead Pitch: 1mm
footprint 665106131822
pins: 1, 2, 3, 4, 5, 6

## 665108131822
designator P?  (value not drawn)
WR-WTB SMT Male Horizontal Shrouded Header, pitch 1mm, 8pins; Manufacturer: Wurth Elektronik; Contact Resistance: 20mohm; Rated Current: 1A; Working Voltage: 50V(AC); Withstanding Voltage: 500V(AC); Manufacturer Part Number: 665108131822; Product Series: WR-WTB; ComponentLink1Description: Website Link; ComponentLink1URL: https://www.we-online.com; ComponentLink2Description: Datasheet Link; ComponentLink2URL: https://www.we-online.com/components/products/datasheet/665108131822; Mount: Surface Mount; Operating Temperature Min: -25degC; Operating Temperature Max: 85degC; Packaging: Tape and Reel; Length: 10mm; Width: 4.95mm; Height: 2.9mm; Gender: Male; Number of Pins: 8; Number of Rows: 1; Orientation: Horizontal; Lead Pitch: 1mm
footprint 665108131822
pins: 1, 2, 3, 4, 5, 6, 7, 8

## 665110131822
designator P?  (value not drawn)
WR-WTB SMT Male Horizontal Shrouded Header, pitch 1mm, 10pins; Manufacturer: Wurth Elektronik; Contact Resistance: 20mohm; Rated Current: 1A; Working Voltage: 50V(AC); Withstanding Voltage: 500V(AC); Manufacturer Part Number: 665110131822; Product Series: WR-WTB; ComponentLink1Description: Website Link; ComponentLink1URL: https://www.we-online.com; ComponentLink2Description: Datasheet Link; ComponentLink2URL: https://www.we-online.com/components/products/datasheet/665110131822; Mount: Surface Mount; Operating Temperature Min: -25degC; Operating Temperature Max: 85degC; Packaging: Tape and Reel; Length: 12mm; Width: 4.95mm; Height: 2.9mm; Gender: Male; Number of Pins: 10; Number of Rows: 1; Orientation: Horizontal; Lead Pitch: 1mm
footprint 665110131822
pins: 1, 2, 3, 4, 5, 6, 7, 8, 9, 10

## 665302124022
designator P?  (value not drawn)
WR-WTB SMT Male Vertical Shrouded Header, pitch 1mm, 2pins; Manufacturer: Wurth Elektronik; Contact Resistance: 20mohm; Rated Current: 1A; Working Voltage: 50V(AC); Withstanding Voltage: 500V(AC); Manufacturer Part Number: 665302124022; Product Series: WR-WTB; ComponentLink1Description: Website Link; ComponentLink1URL: https://www.we-online.com; ComponentLink2Description: Datasheet Link; ComponentLink2URL: https://www.we-online.com/components/products/datasheet/665302124022; Mount: Surface Mount; Operating Temperature Min: -25degC; Operating Temperature Max: 85degC; Packaging: Tape and Reel; Length: 4mm; Width: 3.55mm; Height: 4.25mm; Gender: Male; Number of Pins: 2; Number of Rows: 1; Orientation: Vertical; Lead Pitch: 1mm
footprint 665302124022
pins: 1, 2

## 665303124022
designator P?  (value not drawn)
WR-WTB SMT Male Vertical Shrouded Header, pitch 1mm, 3pins; Manufacturer: Wurth Elektronik; Contact Resistance: 20mohm; Rated Current: 1A; Working Voltage: 50V(AC); Withstanding Voltage: 500V(AC); Manufacturer Part Number: 665303124022; Product Series: WR-WTB; ComponentLink1Description: Website Link; ComponentLink1URL: https://www.we-online.com; ComponentLink2Description: Datasheet Link; ComponentLink2URL: https://www.we-online.com/components/products/datasheet/665303124022; Mount: Surface Mount; Operating Temperature Min: -25degC; Operating Temperature Max: 85degC; Packaging: Tape and Reel; Length: 5mm; Width: 3.55mm; Height: 4.25mm; Gender: Male; Number of Pins: 3; Number of Rows: 1; Orientation: Vertical; Lead Pitch: 1mm
footprint 665303124022
pins: 1, 2, 3

## 665304124022
designator P?  (value not drawn)
WR-WTB SMT Male Vertical Shrouded Header, pitch 1mm, 4pins; Manufacturer: Wurth Elektronik; Contact Resistance: 20mohm; Rated Current: 1A; Working Voltage: 50V(AC); Withstanding Voltage: 500V(AC); Manufacturer Part Number: 665304124022; Product Series: WR-WTB; ComponentLink1Description: Website Link; ComponentLink1URL: https://www.we-online.com; ComponentLink2Description: Datasheet Link; ComponentLink2URL: https://www.we-online.com/components/products/datasheet/665304124022; Mount: Surface Mount; Operating Temperature Min: -25degC; Operating Temperature Max: 85degC; Packaging: Tape and Reel; Length: 6mm; Width: 3.55mm; Height: 4.25mm; Gender: Male; Number of Pins: 4; Number of Rows: 1; Orientation: Vertical; Lead Pitch: 1mm
footprint 665304124022
pins: 1, 2, 3, 4

## 665305124022
designator P?  (value not drawn)
WR-WTB SMT Male Vertical Shrouded Header, pitch 1mm, 5pins; Manufacturer: Wurth Elektronik; Contact Resistance: 20mohm; Rated Current: 1A; Working Voltage: 50V(AC); Withstanding Voltage: 500V(AC); Manufacturer Part Number: 665305124022; Product Series: WR-WTB; ComponentLink1Description: Website Link; ComponentLink1URL: https://www.we-online.com; ComponentLink2Description: Datasheet Link; ComponentLink2URL: https://www.we-online.com/components/products/datasheet/665305124022; Mount: Surface Mount; Operating Temperature Min: -25degC; Operating Temperature Max: 85degC; Packaging: Tape and Reel; Length: 7mm; Width: 3.55mm; Height: 4.25mm; Gender: Male; Number of Pins: 5; Number of Rows: 1; Orientation: Vertical; Lead Pitch: 1mm
footprint 665305124022
pins: 1, 2, 3, 4, 5

## 665306124022
designator P?  (value not drawn)
WR-WTB SMT Male Vertical Shrouded Header, pitch 1mm, 6pins; Manufacturer: Wurth Elektronik; Contact Resistance: 20mohm; Rated Current: 1A; Working Voltage: 50V(AC); Withstanding Voltage: 500V(AC); Manufacturer Part Number: 665306124022; Product Series: WR-WTB; ComponentLink1Description: Website Link; ComponentLink1URL: https://www.we-online.com; ComponentLink2Description: Datasheet Link; ComponentLink2URL: https://www.we-online.com/components/products/datasheet/665306124022; Mount: Surface Mount; Operating Temperature Min: -25degC; Operating Temperature Max: 85degC; Packaging: Tape and Reel; Length: 8mm; Width: 3.55mm; Height: 4.25mm; Gender: Male; Number of Pins: 6; Number of Rows: 1; Orientation: Vertical; Lead Pitch: 1mm
footprint 665306124022
pins: 1, 2, 3, 4, 5, 6

## 665308124022
designator P?  (value not drawn)
WR-WTB SMT Male Vertical Shrouded Header, pitch 1mm, 8pins; Manufacturer: Wurth Elektronik; Contact Resistance: 20mohm; Rated Current: 1A; Working Voltage: 50V(AC); Withstanding Voltage: 500V(AC); Manufacturer Part Number: 665308124022; Product Series: WR-WTB; ComponentLink1Description: Website Link; ComponentLink1URL: https://www.we-online.com; ComponentLink2Description: Datasheet Link; ComponentLink2URL: https://www.we-online.com/components/products/datasheet/665308124022; Mount: Surface Mount; Operating Temperature Min: -25degC; Operating Temperature Max: 85degC; Packaging: Tape and Reel; Length: 10mm; Width: 3.55mm; Height: 4.25mm; Gender: Male; Number of Pins: 8; Number of Rows: 1; Orientation: Vertical; Lead Pitch: 1mm
footprint 665308124022
pins: 1, 2, 3, 4, 5, 6, 7, 8

## 665310124022
designator P?  (value not drawn)
WR-WTB SMT Male Vertical Shrouded Header, pitch 1mm, 10pins; Manufacturer: Wurth Elektronik; Contact Resistance: 20mohm; Rated Current: 1A; Working Voltage: 50V(AC); Withstanding Voltage: 500V(AC); Manufacturer Part Number: 665310124022; Product Series: WR-WTB; ComponentLink1Description: Website Link; ComponentLink1URL: https://www.we-online.com; ComponentLink2Description: Datasheet Link; ComponentLink2URL: https://www.we-online.com/components/products/datasheet/665310124022; Mount: Surface Mount; Operating Temperature Min: -25degC; Operating Temperature Max: 85degC; Packaging: Tape and Reel; Length: 12mm; Width: 3.55mm; Height: 4.25mm; Gender: Male; Number of Pins: 10; Number of Rows: 1; Orientation: Vertical; Lead Pitch: 1mm
footprint 665310124022
pins: 1, 2, 3, 4, 5, 6, 7, 8, 9, 10